# Altium schematic symbol library uAMDC.SchLib: 19 symbols
Pins are listed as number, name and electrical type; pins without a type are passive.

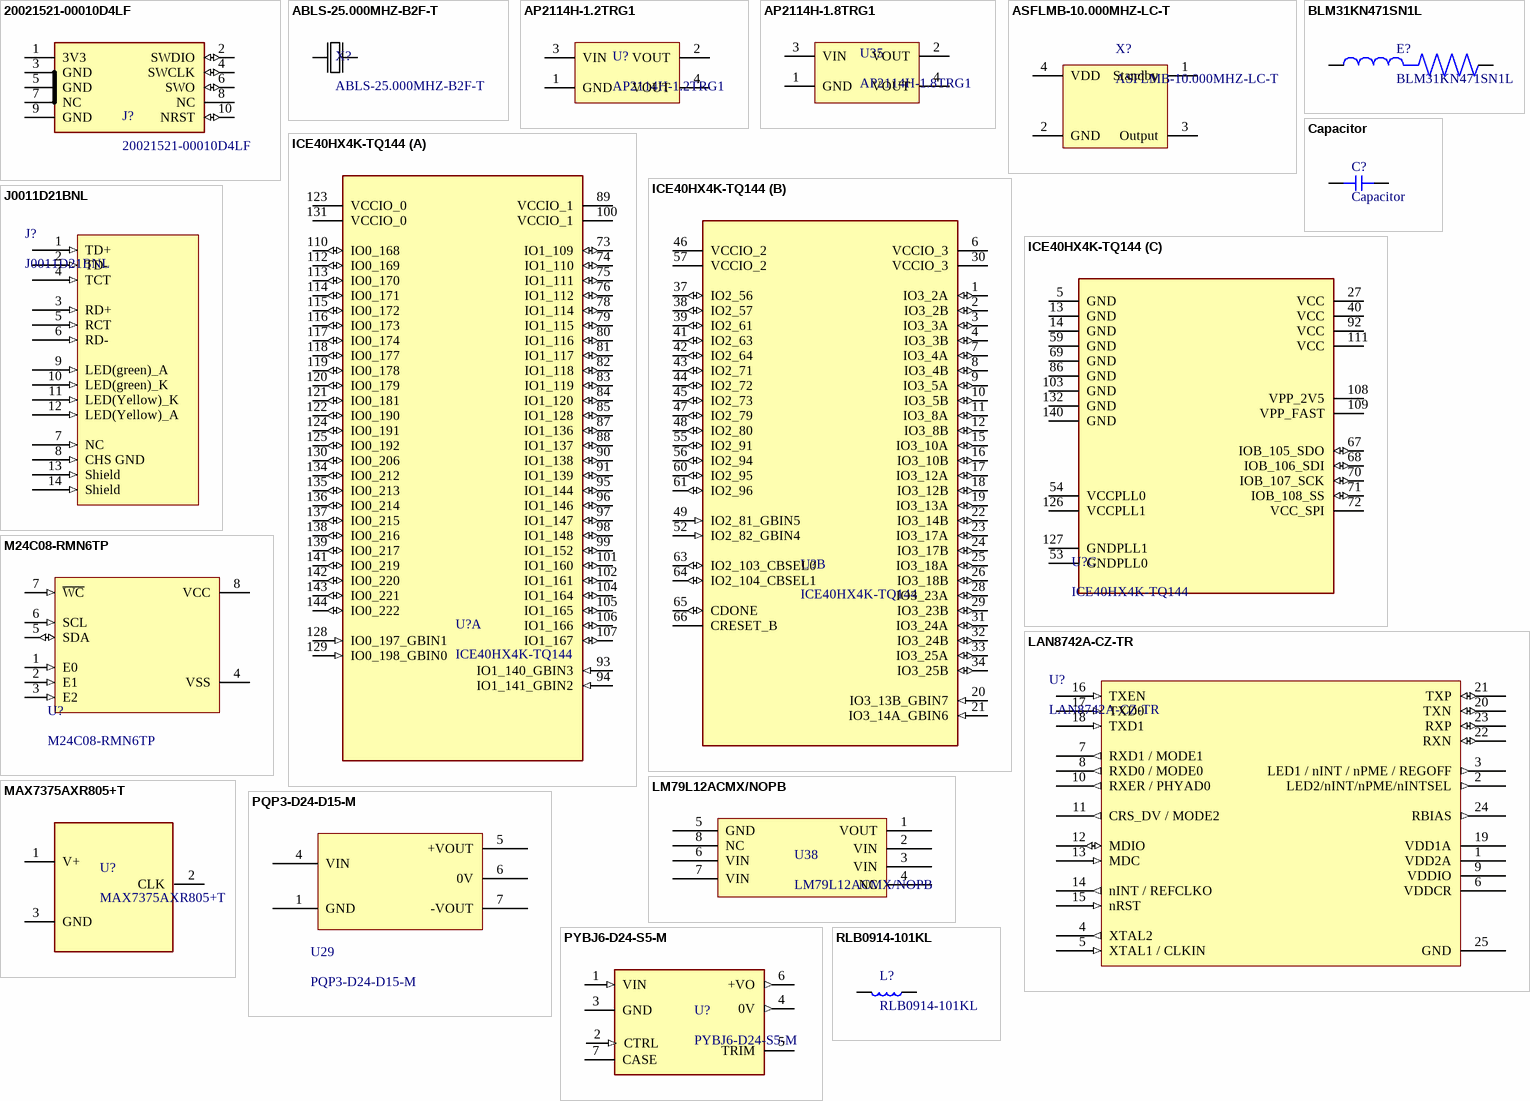
[diagram p0: symbols 20021521-00010D4LF to RLB0914-101KL]

## 20021521-00010D4LF
designator J?
SWD Connector Header Surface Mount 10 position 0.050" (1.27mm); Supplier Part Number 1: 609-6533-ND
footprint 20021521-00010D4LF (CONN HEADER SMD 10POS 1.27MM)
pins: 1 3V3 (power), 2 SWDIO (io), 3 GND (power), 4 SWCLK (io), 5 GND (power), 6 SWO (io), 7 NC (power), 8 NC (power), 9 GND (power), 10 NRST (io)

## ABLS-25.000MHZ-B2F-T
designator X?
25MHz ±20ppm Crystal 18pF 40 Ohms HC-49/US; Supplier Part Number 1: 535-9078-1-ND
footprint XTAL_ABLS-8.000MHZ-B2-T
pins: 1, 2

## AP2114H-1.2TRG1
designator U?
IC REG LINEAR 1.2V 1A SOT223; Supplier Part Number 1: AP2114H-1.2TRG1DICT-ND
footprint SOT230P700X180-4N
pins: 1 GND (power), 2 VOUT (power), 3 VIN (power), 4 VOUT (power)

## AP2114H-1.8TRG1
designator U35
Linear Voltage Regulator IC 1 Output 1A SOT-223; Supplier Part Number 1: AP2114H-1.8TRG1DICT-ND
footprint SOT230P700X180-4N
pins: 1 GND (power), 2 VOUT (power), 3 VIN (power), 4 VOUT (power)

## ASFLMB-10.000MHZ-LC-T
designator X?
10MHz XO (Standard) LVCMOS Oscillator 1.8V ~ 3.3V Standby (Power Down) 4-SMD, No Lead; Supplier Part Number 1: 535-11762-1-ND
footprint ASFLMB-50.000MHZ-LC-T
pins: 1 Standby (power), 2 GND (power), 3 Output (power), 4 VDD (power)

## BLM31KN471SN1L
designator E?
Power Line Ferrite Bead 1206 (3216 Metric) 4A 20mOhm; Supplier Part Number 1: 490-16530-1-ND
footprint BEADC3216X180N
pins: 1, 2

## Capacitor
designator C?
pins: 1, 2

## ICE40HX4K-TQ144
designator U?
IC FPGA 107 I/O 144TQFP; Supplier Part Number 1: 220-1572-ND
footprint QFP50P2200X2200X160-144N
part A pins: 73 IO1_109 (io), 74 IO1_110 (io), 75 IO1_111 (io), 76 IO1_112 (io), 78 IO1_114 (io), 79 IO1_115 (io), 80 IO1_116 (io), 81 IO1_117 (io), 82 IO1_118 (io), 83 IO1_119 (io), 84 IO1_120 (io), 85 IO1_128 (io), 87 IO1_136 (io), 88 IO1_137 (io), 89 VCCIO_1 (power), 90 IO1_138 (io), 91 IO1_139 (io), 93 IO1_140_GBIN3 (in), 94 IO1_141_GBIN2 (in), 95 IO1_144 (io), 96 IO1_146 (io), 97 IO1_147 (io), 98 IO1_148 (io), 99 IO1_152 (io), 100 VCCIO_1 (power), 101 IO1_160 (io), 102 IO1_161 (io), 104 IO1_164 (io), 105 IO1_165 (io), 106 IO1_166 (io), 107 IO1_167 (io), 110 IO0_168 (io), 112 IO0_169 (io), 113 IO0_170 (io), 114 IO0_171 (io), 115 IO0_172 (io), 116 IO0_173 (io), 117 IO0_174 (io), 118 IO0_177 (io), 119 IO0_178 (io), 120 IO0_179 (io), 121 IO0_181 (io), 122 IO0_190 (io), 123 VCCIO_0 (power), 124 IO0_191 (io), 125 IO0_192 (io), 128 IO0_197_GBIN1 (in), 129 IO0_198_GBIN0 (in), 130 IO0_206 (io), 131 VCCIO_0 (power), 134 IO0_212 (io), 135 IO0_213 (io), 136 IO0_214 (io), 137 IO0_215 (io), 138 IO0_216 (io), 139 IO0_217 (io), 141 IO0_219 (io), 142 IO0_220 (io), 143 IO0_221 (io), 144 IO0_222 (io)
part B pins: 1 IO3_2A (io), 2 IO3_2B (io), 3 IO3_3A (io), 4 IO3_3B (io), 6 VCCIO_3 (power), 7 IO3_4A (io), 8 IO3_4B (io), 9 IO3_5A (io), 10 IO3_5B (io), 11 IO3_8A (io), 12 IO3_8B (io), 15 IO3_10A (io), 16 IO3_10B (io), 17 IO3_12A (io), 18 IO3_12B (io), 19 IO3_13A (io), 20 IO3_13B_GBIN7 (in), 21 IO3_14A_GBIN6 (in), 22 IO3_14B (io), 23 IO3_17A (io), 24 IO3_17B (io), 25 IO3_18A (io), 26 IO3_18B (io), 28 IO3_23A (io), 29 IO3_23B (io), 30 VCCIO_3 (power), 31 IO3_24A (io), 32 IO3_24B (io), 33 IO3_25A (io), 34 IO3_25B (io), 37 IO2_56 (io), 38 IO2_57 (io), 39 IO2_61 (io), 41 IO2_63 (io), 42 IO2_64 (io), 43 IO2_71 (io), 44 IO2_72 (io), 45 IO2_73 (io), 46 VCCIO_2 (power), 47 IO2_79 (io), 48 IO2_80 (io), 49 IO2_81_GBIN5 (in), 52 IO2_82_GBIN4 (in), 55 IO2_91 (io), 56 IO2_94 (io), 57 VCCIO_2 (power), 60 IO2_95 (io), 61 IO2_96 (io), 63 IO2_103_CBSEL0 (io), 64 IO2_104_CBSEL1 (io), 65 CDONE (io), 66 CRESET_B
part C pins: 5 GND, 13 GND, 14 GND, 27 VCC (power), 40 VCC (power), 53 GNDPLL0, 54 VCCPLL0 (power), 59 GND, 67 IOB_105_SDO (io), 68 IOB_106_SDI (io), 69 GND, 70 IOB_107_SCK (io), 71 IOB_108_SS (io), 72 VCC_SPI (power), 86 GND, 92 VCC (power), 103 GND, 108 VPP_2V5 (power), 109 VPP_FAST (power), 111 VCC (power), 126 VCCPLL1 (power), 127 GNDPLL1, 132 GND, 140 GND

## J0011D21BNL
designator J?
1 Port RJ45 Magjack Connector Through Hole 10/100 Base-TX, AutoMDIX; Supplier Part Number 1: 553-1485-ND
footprint J0011D21BNL (CONN MAGJACK 1PORT 100 BASE-TX)
pins: 1 TD+ (in), 2 TD- (in), 3 RD+ (in), 4 TCT (in), 5 RCT (in), 6 RD- (in), 7 NC (in), 8 CHS GND (in), 9 LED(green)_A (in), 10 LED(green)_K (in), 11 LED(Yellow)_K (in), 12 LED(Yellow)_A (in), 13 Shield (in), 14 Shield (in)

## LAN8742A-CZ-TR
designator U?
1/1 Transceiver Ethernet 24-SQFN (4x4); Supplier Part Number 1: LAN8742A-CZ-CT-ND
footprint QFN50P400X400X100_HS-25N (QFN, 24-Leads, Body 4.00x4.00mm, Pitch 0.50mm, Thermal Pad 2.50x2.50mm, IPC Medium Density)
pins: 1 VDD2A (power), 2 LED2/nINT/nPME/nINTSEL (out), 3 LED1 / nINT / nPME / REGOFF (out), 4 XTAL2 (out), 5 XTAL1 / CLKIN (in), 6 VDDCR (power), 7 RXD1 / MODE1 (out), 8 RXD0 / MODE0 (out), 9 VDDIO (power), 10 RXER / PHYAD0 (out), 11 CRS_DV / MODE2 (out), 12 MDIO (io), 13 MDC (in), 14 nINT / REFCLKO (out), 15 nRST (in), 16 TXEN (in), 17 TXD0 (in), 18 TXD1 (in), 19 VDD1A (power), 20 TXN (io), 21 TXP (io), 22 RXN (io), 23 RXP (io), 24 RBIAS (out), 25 GND (power)

## LM79L12ACMX/NOPB
designator U38
Linear Voltage Regulator IC 1 Output 100mA 8-SOIC; Supplier Part Number 1: LM79L12ACMX/NOPBCT-ND
footprint SOIC127P599X175-8N
pins: 1 VOUT, 2 VIN, 3 VIN, 4 NC, 5 GND, 6 VIN, 7 VIN, 8 NC

## M24C08-RMN6TP
designator U?
EEPROM Memory IC 8Kb (1K x 8) I²C 400kHz 900ns 8-SO; Supplier Part Number 1: 497-8637-1-ND
footprint SOIC127P600X175-8N
pins: 1 E0 (in), 2 E1 (in), 3 E2 (in), 4 VSS, 5 SDA (io), 6 SCL (in), 7 ~{WC} (in), 8 VCC (power)

## MAX7375AXR805+T
designator U?
8MHz XO (Standard) CMOS Oscillator 2.7V ~ 5.5V SC-70, SOT-323; Supplier Part Number 1: MAX7375AXR805+TCT-ND
footprint SOT65P210X110-3N
pins: 1 V+, 2 CLK, 3 GND

## PQP3-D24-D15-M
designator U29
Isolated Module DC DC Converter 2 Output 15V -15V 100mA, 100mA 18V - 36V Input; Supplier Part Number 1: 102-PQP3-D24-D15-M-ND
footprint CONV_PQP3-D24-D15-M
pins: 1 GND, 4 VIN, 5 +VOUT, 6 0V, 7 -VOUT

## PYBJ6-D24-S5-M
designator U?
Isolated Module DC DC Converter 1 Output 5V 1.2A 18V - 36V Input; Supplier Part Number 1: 102-6611-ND
footprint CONV_PYBJ6-D24-S5-M
pins: 1 VIN (in), 2 CTRL (in), 3 GND (power), 4 0V (out), 5 TRIM, 6 +VO (out), 7 CASE (power)

## RLB0914-101KL
designator L?
100µH Unshielded Wirewound Inductor 1.1A 280mOhm Max Radial, Vertical Cylinder /; Supplier Part Number 1: RLB0914-101KL
footprint RLB0914
pins: 1, 2

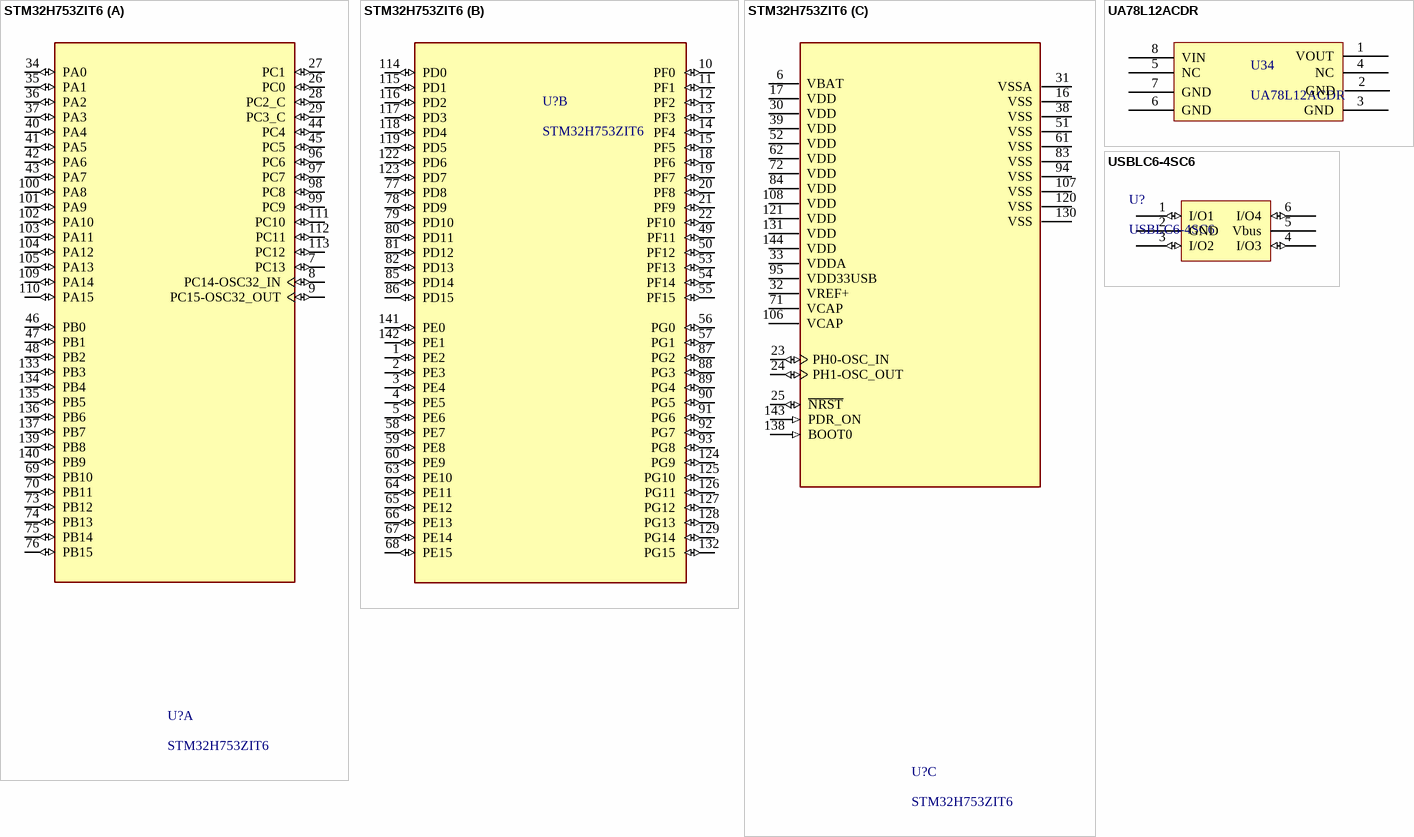
[diagram p1: symbols STM32H753ZIT6 to USBLC6-4SC6]

## STM32H753ZIT6
designator U?
DSP - LQFP 144 20X20X1.4 2; Supplier Part Number 1: 497-18568-ND
footprint QFP50P2200X2200X160-144N
part A pins: 7 PC13 (io), 8 PC14-OSC32_IN (io), 9 PC15-OSC32_OUT (io), 26 PC0 (io), 27 PC1 (io), 28 PC2_C (io), 29 PC3_C (io), 34 PA0 (io), 35 PA1 (io), 36 PA2 (io), 37 PA3 (io), 40 PA4 (io), 41 PA5 (io), 42 PA6 (io), 43 PA7 (io), 44 PC4 (io), 45 PC5 (io), 46 PB0 (io), 47 PB1 (io), 48 PB2 (io), 69 PB10 (io), 70 PB11 (io), 73 PB12 (io), 74 PB13 (io), 75 PB14 (io), 76 PB15 (io), 96 PC6 (io), 97 PC7 (io), 98 PC8 (io), 99 PC9 (io), 100 PA8 (io), 101 PA9 (io), 102 PA10 (io), 103 PA11 (io), 104 PA12 (io), 105 PA13 (io), 109 PA14 (io), 110 PA15 (io), 111 PC10 (io), 112 PC11 (io), 113 PC12 (io), 133 PB3 (io), 134 PB4 (io), 135 PB5 (io), 136 PB6 (io), 137 PB7 (io), 139 PB8 (io), 140 PB9 (io)
part B pins: 1 PE2 (io), 2 PE3 (io), 3 PE4 (io), 4 PE5 (io), 5 PE6 (io), 10 PF0 (io), 11 PF1 (io), 12 PF2 (io), 13 PF3 (io), 14 PF4 (io), 15 PF5 (io), 18 PF6 (io), 19 PF7 (io), 20 PF8 (io), 21 PF9 (io), 22 PF10 (io), 49 PF11 (io), 50 PF12 (io), 53 PF13 (io), 54 PF14 (io), 55 PF15 (io), 56 PG0 (io), 57 PG1 (io), 58 PE7 (io), 59 PE8 (io), 60 PE9 (io), 63 PE10 (io), 64 PE11 (io), 65 PE12 (io), 66 PE13 (io), 67 PE14 (io), 68 PE15 (io), 77 PD8 (io), 78 PD9 (io), 79 PD10 (io), 80 PD11 (io), 81 PD12 (io), 82 PD13 (io), 85 PD14 (io), 86 PD15 (io), 87 PG2 (io), 88 PG3 (io), 89 PG4 (io), 90 PG5 (io), 91 PG6 (io), 92 PG7 (io), 93 PG8 (io), 114 PD0 (io), 115 PD1 (io), 116 PD2 (io), 117 PD3 (io), 118 PD4 (io), 119 PD5 (io), 122 PD6 (io), 123 PD7 (io), 124 PG9 (io), 125 PG10 (io), 126 PG11 (io), 127 PG12 (io), 128 PG13 (io), 129 PG14 (io), 132 PG15 (io), 141 PE0 (io), 142 PE1 (io)
part C pins: 6 VBAT (power), 16 VSS (power), 17 VDD (power), 23 PH0-OSC_IN (io), 24 PH1-OSC_OUT (io), 25 ~{NRST} (io), 30 VDD (power), 31 VSSA (power), 32 VREF+ (power), 33 VDDA (power), 38 VSS (power), 39 VDD (power), 51 VSS (power), 52 VDD (power), 61 VSS (power), 62 VDD (power), 71 VCAP (power), 72 VDD (power), 83 VSS (power), 84 VDD (power), 94 VSS (power), 95 VDD33USB (power), 106 VCAP (power), 107 VSS (power), 108 VDD (power), 120 VSS (power), 121 VDD (power), 130 VSS (power), 131 VDD (power), 138 BOOT0 (in), 143 PDR_ON (in), 144 VDD (power)

## UA78L12ACDR
designator U34
Linear Voltage Regulator IC 1 Output 100mA 8-SOIC; Supplier Part Number 1: 296-15054-1-ND
footprint SOIC127P599X175-8N
pins: 1 VOUT, 2 GND, 3 GND, 4 NC, 5 NC, 6 GND, 7 GND, 8 VIN

## USBLC6-4SC6
designator U?
17V Clamp 5A (8/20µs) Ipp Tvs Diode Surface Mount SOT-23-6; Supplier Part Number 1: 497-4492-1-ND
footprint SOT95P280X145-6N
pins: 1 I/O1 (io), 2 GND (power), 3 I/O2 (io), 4 I/O3 (io), 5 Vbus (power), 6 I/O4 (io)